# EAGLE library part RT7294 (library test)
Richtek RT7294 Step-Down (500kHz, 2.5A, 4.3-18V input) 5.0V - R1=110k, R2=15k, L=10uH, Cin=10uF, Cout=22uF 3.3V - R1=68k, R2=15k, L=6.8...10uH, Cin=10uF, Cout=22uF RT7285A/B/C/D - 1.5A RT7294A/B/C/D - 2.5A RT7295A/B/C/D - 3.5A A = PSM (light load optimization) + Hiccup UVP/OCP B = PSM (light load optimization) C = Force PWM + Hiccup UVP/OCP D = Force PWM
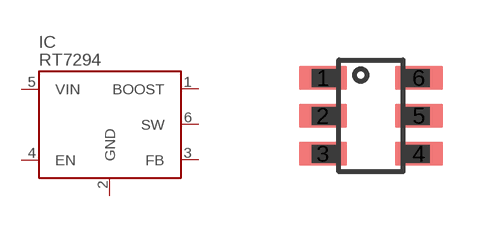
[diagram p4: symbol with the pads of SOT23-6; footprint SOT23-6]

Designator prefix IC

## RT7294AGJ6F  [SOT23-6]
1  BOOST  pas
2  GND  pwr
3  FB  pas
4  EN  in
5  VIN  pwr
6  SW  pas

## Footprint SOT23-6 (pad centres in mm)
smd 1.2 x 0.6: 1 -1.2,0.95; 2 -1.2,0; 3 -1.2,-0.95; 4 1.2,-0.95; 5 1.2,0; 6 1.2,0.95